# Altium schematic symbol library U_NCR402U.SchLib: 1 symbol
Pins are listed as number, name and electrical type; pins without a type are passive.

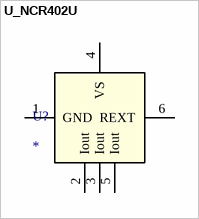
[diagram p0: symbol U_NCR402U]

## U_NCR402U
designator U?
pins: 1 GND "Positive Voltage", 2 Iout "Switching", 3 Iout "Switching", 4 VS "Switching", 5 Iout "Switching", 6 REXT "Switching"